# EAGLE library part PCA9554PW (library guider-shield)
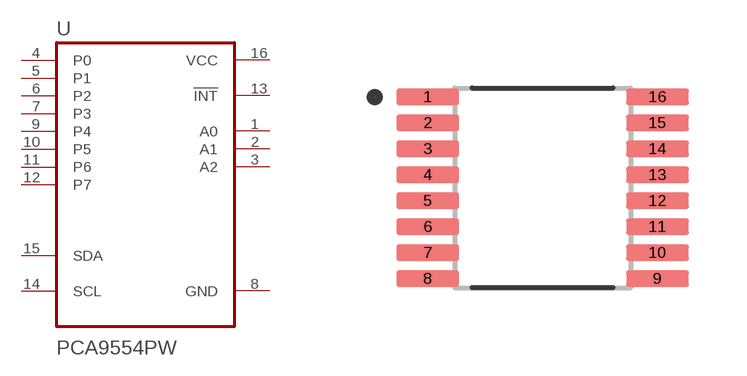
[diagram p5: symbol with the pads of SOP65P640X120-16N; footprint SOP65P640X120-16N]

Designator prefix U

## PCA9554PW (AVAILABILITY: Unavailable; DESCRIPTION: Remote 8-Bit I2C and SMBus I/O Expander with Interrupt Output and Configuration Registers 16-TSSOP -40 to 85; MF: Texas Instruments; MP: PCA9554PW; PACKAGE: TSSOP-16 Texas Instruments; PRICE: None)  [SOP65P640X120-16N]
1  A0  in
2  A1  in
3  A2  in
4  P0
5  P1
6  P2
7  P3
8  GND  pwr
9  P4
10  P5
11  P6
12  P7
13  !INT  out
14  SCL  in
15  SDA
16  VCC  pwr

## Footprint SOP65P640X120-16N (pad centres in mm)
smd 1.57 x 0.41: 1 -2.87,2.275; 2 -2.87,1.625; 3 -2.87,0.975; 4 -2.87,0.325; 5 -2.87,-0.325; 6 -2.87,-0.975; 7 -2.87,-1.625; 8 -2.87,-2.275; 9 2.87,-2.275; 10 2.87,-1.625; 11 2.87,-0.975; 12 2.87,-0.325; 13 2.87,0.325; 14 2.87,0.975; 15 2.87,1.625; 16 2.87,2.275